# Altium schematic symbol library E2S_E2S_032_V1_Review_Done.SchLib: 6 symbols
Pins are listed as number, name and electrical type; pins without a type are passive.

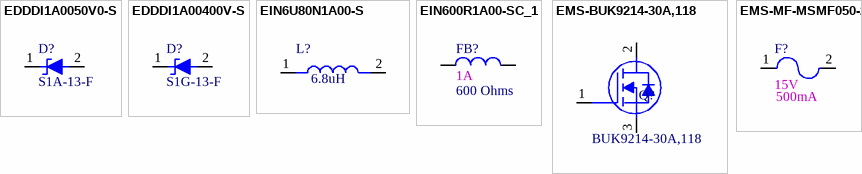
[diagram p0: symbols EDDDI1A0050V0-S to EMS-MF-MSMF050-2]

## EDDDI1A0050V0-S
designator D?, comment value S1A-13-F  (hidden comment: DIODE GEN PURP 50V 1A SMA)
Manufacturer: Diodes Incorporated; Vendor Part Number: S1A-FDICT-ND; Internal Part Number: EDDDI1A0050V0-S; Vendor Name: Digi-Key; 3rd Auxiliary Field: RoHS3 Compliant; Component Height (mm): 2.40 mm; Temp Co: -65°C ~ 150°C; Part Type: DIODE GEN PURP 50V 1A SMA; Manufacturer Part Number: S1A-13-F; 4th Auxiliary Field: *; 1st Auxiliary Field: 50V; 2nd Auxiliary Field: 1A
footprint DIOM4326X24N (Molded Diode, 2-Leads, Body 4.30x2.60mm, IPC Medium Density)
pins: 1 K, 2 A

## EDDDI1A00400V-S
designator D?, comment value S1G-13-F  (hidden comment: DIODE GEN PURP 400V 1A SMA)
Manufacturer: Diodes Incorporated; Vendor Part Number: S1G-FDICT-ND; Internal Part Number: EDDDI1A00400V-S; Vendor Name: Digi-Key; 3rd Auxiliary Field: ROHS3 Compliant; Component Height (mm): 2.40 mm; Temp Co: -65°C ~ 150°C; Part Type: DIODE GEN PURP 400V 1A SMA; Manufacturer Part Number: S1G-13-F; 4th Auxiliary Field: *; 1st Auxiliary Field: 400V; 2nd Auxiliary Field: 1A
footprint DIOM4326X24N (Molded Diode, 2-Leads, Body 4.30x2.60mm, IPC Medium Density)
pins: 1 K, 2 A

## EIN6U80N1A00-S
designator L?, comment value 6.8uH  (hidden comment: FIXED IND 6.8UH 1A 375 MOHM SMD)
Manufacturer: Murata Electronics; Internal Part Number: EIN6U80N1A00-S; Manufacturer Part Number: 1239AS-H-6R8M=P2; Vendor Part Number: 490-10570-1-ND; 3rd Auxiliary Field: ROHS3 Compliant; Component Height (mm): 1.20mm; Vendor Name: Digi-Key; Temp Co: -40°C ~ 85°C; 2nd Auxiliary Field: ±20%; 1st Auxiliary Field: 1A; Part Type: FIXED IND 6.8UH 1A 375 MOHM SMD; 4th Auxiliary Field: *
footprint INDP2520X12N (Footprint not found)
pins: 1, 2
1 alternate drawing of the same symbol

## EIN600R1A00-SC_1
designator FB?, comment value 600 Ohms  1st Auxiliary Field: 1A  (hidden comment: FERRITE BEAD 600 OHM 0603 1LN)
Manufacturer: TDK Corporation; Internal Part Number: EIN600R1A00-SC_1; Manufacturer Part Number: MPZ1608S601ATA00; Vendor Part Number: 445-2205-1-ND; 3rd Auxiliary Field: ROHS3 Compliant; Component Height (mm): 0.95mm; Vendor Name: Digi-Key; Temp Co: -55°C ~ 125°C; 2nd Auxiliary Field: 600 Ohms @ 100MHz; Part Type: FERRITE BEAD 600 OHM 0603 1LN; 4th Auxiliary Field: *
footprint SMDL0603 (Chip Inductor, 2-Leads, Body 1.60x0.80mm, IPC Medium Density)
pins: 1, 2
1 alternate drawing of the same symbol

## EMS-BUK9214-30A,118
designator Q?, comment value BUK9214-30A,118  (hidden comment: MOSFET N-CH 30V 63A DPAK)
Manufacturer: Nexperia USA Inc.; Internal Part Number: EMS-BUK9214-30A,118; Vendor Part Number: 1727-7177-1-ND; 2nd Auxiliary Field: 63A (Tc); 3rd Auxiliary Field: 4.5V, 10V; Component Height (mm): 2.38mm; Temp Co: -55°C ~ 175°C (TJ); 4th Auxiliary Field: ROHS3 Compliant; Vendor Name: Digi-Key; 1st Auxiliary Field: 30V; Part Type: MOSFET N-CH 30V 63A DPAK; Manufacturer Part Number: BUK9214-30A,118
footprint TO228P1000X238-3N (Footprint not found)
pins: 1 G, 2 D, 3 S

## EMS-MF-MSMF050-2
designator F?, comment 2nd Auxiliary Field: 500mA  1st Auxiliary Field: 15V  (hidden comment: PTC RESET FUSE 15V 500MA 1812)
Manufacturer Part Number: MF-MSMF050-2; Manufacturer: Bourns Inc.; Internal Part Number: EMS-MF-MSMF050-2; Vendor Part Number: MF-MSMF050-2CT-ND; 3rd Auxiliary Field: RoHS3 Compliant; Component Height (mm): 0.85mm; Temp Co: -40°C ~ 85°C; Vendor Name: Digi-Key; Value: 150 mOhms; Part Type: PTC RESET FUSE 15V 500MA 1812; 4th Auxiliary Field: *
footprint SMDF1812 (Footprint not found)
pins: 1, 2